# Altium footprint library OCP2PCIe-H-F-4.PcbLib: 32 footprints (part 1 of 2)
Each footprint in its own frame and in the unit in brackets; x right, y up, seen from the top. Pads: shape width x height; smd on the part's side, far side on the other; paste and mask are expansions set on the pad; w line width, h text height; cw(c..) or ccw(c..) is an arc to the next point about the centre after c.
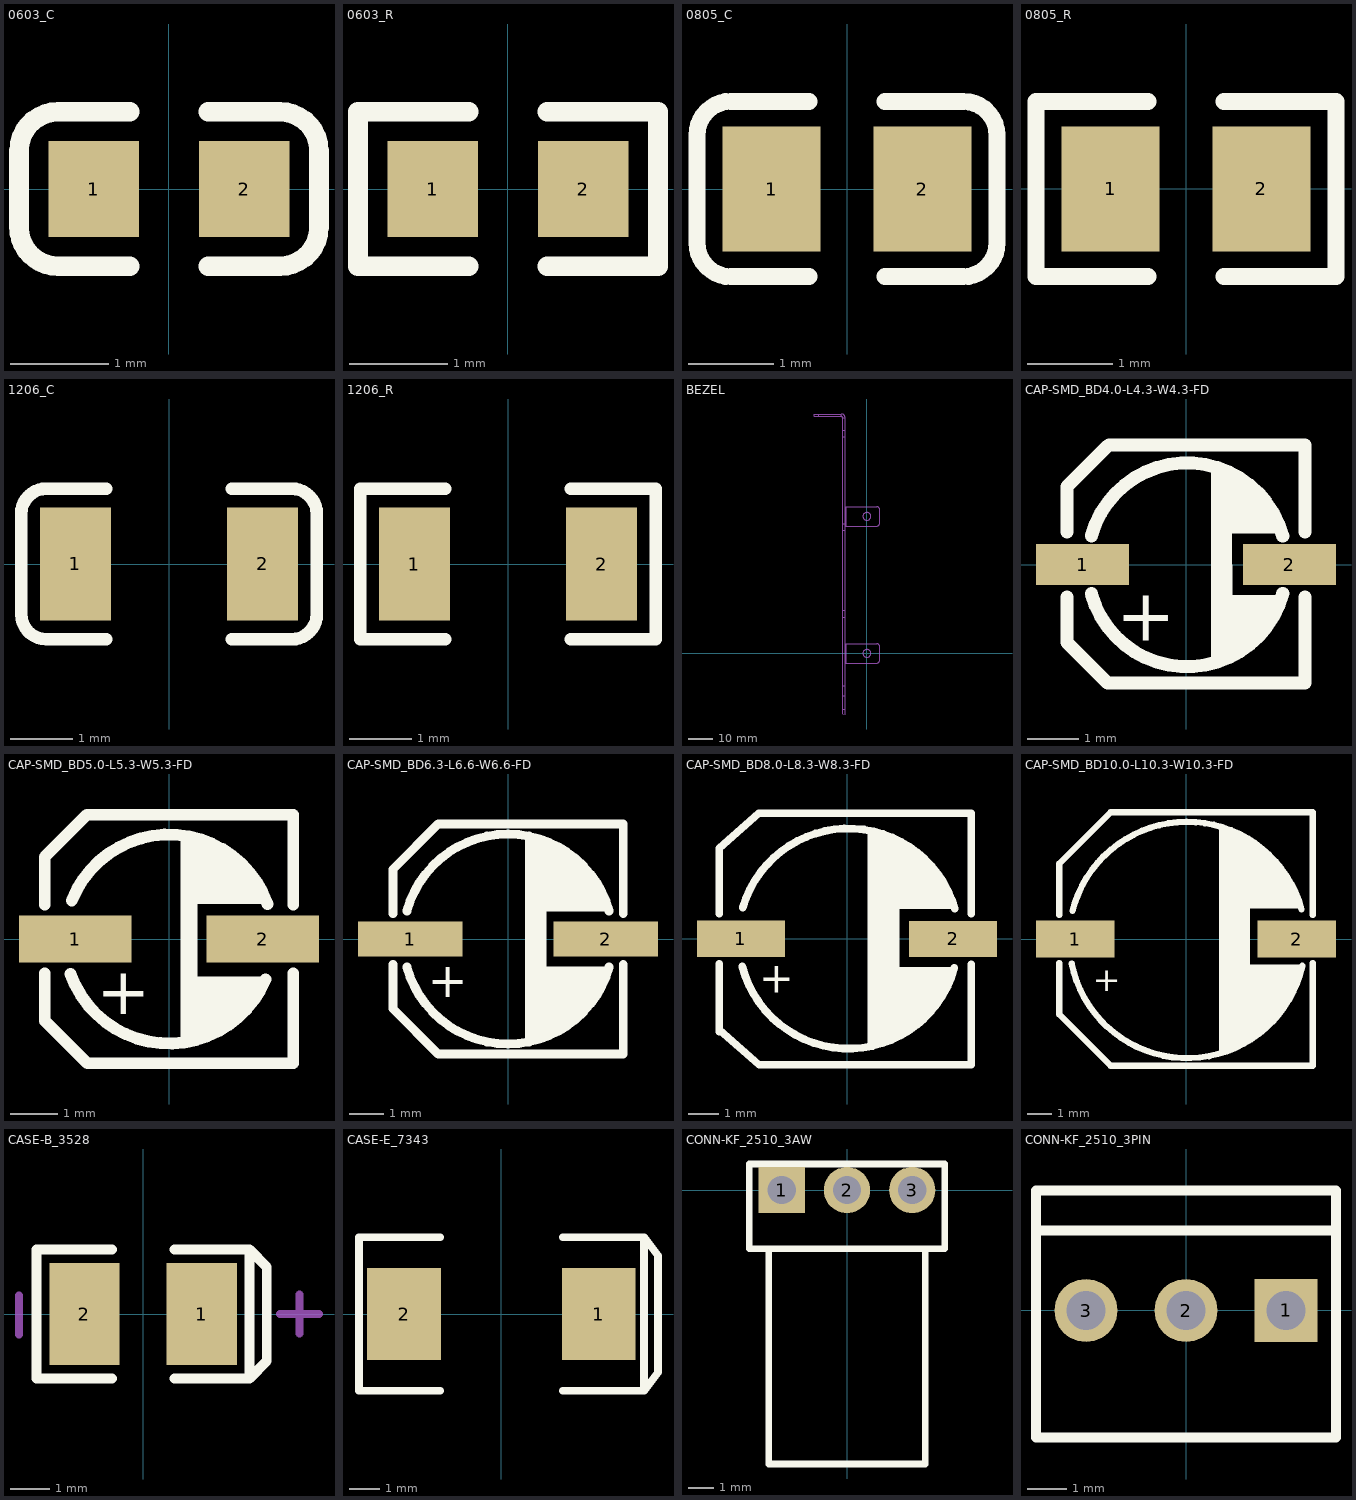
[diagram p0: the footprints below, top view; thin cyan lines are the x and y axes]

## 0603_C [mm]
height 1.5
pads (2):
  rect 0.93x0.98 smd: 1(-0.77,0) 2(0.77,0)
Top Overlay:
  lines w0.2: -0.4,-0.79 -1.135,-0.79 cw(c-1.135,-0.39) -1.535,-0.39 -1.535,0.39 cw(c-1.135,0.39) -1.135,0.79 -0.4,0.79 ; 0.4,-0.79 1.135,-0.79 ccw(c1.135,-0.39) 1.535,-0.39 1.535,0.39 ccw(c1.135,0.39) 1.135,0.79 0.4,0.79
3D body "User Library-0603 SMD Capacitor.STEP": height 0.3, standoff 0, extent -0.8,-0.4 0.8,0.4

## 0603_R [mm]
height 1.5
pads (2):
  rect 0.93x0.98 smd: 1(-0.77,0) 2(0.77,0)
Top Overlay:
  lines w0.2: -0.4,-0.79 -1.535,-0.79 -1.535,0.79 -0.4,0.79 ; 0.4,-0.79 1.535,-0.79 1.535,0.79 0.4,0.79
3D body "User Library-RES_1609-0603.STEP": height 0.56, standoff 0, extent -0.85,-0.4 0.85,0.4

## 0805_C [mm]
height 1.5
pads (2):
  rect 1.16x1.47 smd: 1(-0.89,0) 2(0.89,0)
Top Overlay:
  lines w0.2: -0.45,-1.035 -1.37,-1.035 cw(c-1.37,-0.635) -1.77,-0.635 -1.77,0.635 cw(c-1.37,0.635) -1.37,1.035 -0.45,1.035 ; 0.45,-1.035 1.37,-1.035 ccw(c1.37,-0.635) 1.77,-0.635 1.77,0.635 ccw(c1.37,0.635) 1.37,1.035 0.45,1.035
3D body "User Library-0805 SMD Capacitor.STEP": height 0.77, standoff -0.01, extent -0.999,-0.625 1.001,0.625

## 0805_R [mm]
height 1.5
pads (2):
  rect 1.16x1.47 smd: 1(-0.89,0) 2(0.89,0)
Top Overlay:
  lines w0.2: -0.45,-1.035 -1.77,-1.035 -1.77,1.035 -0.45,1.035 ; 0.45,-1.035 1.77,-1.035 1.77,1.035 0.45,1.035
3D body "User Library-R_0805.STEP": height 0.49, standoff -0.01, extent -0.997,-0.625 1.003,0.625

## 1206_C [mm]
height 1.5
pads (2):
  rect 1.13x1.8 smd: 1(-1.49,0) 2(1.49,0)
Top Overlay:
  lines w0.2: -1,-1.2 -1.955,-1.2 cw(c-1.955,-0.8) -2.355,-0.8 -2.355,0.8 cw(c-1.955,0.8) -1.955,1.2 -1,1.2 ; 1,-1.2 1.955,-1.2 ccw(c1.955,-0.8) 2.355,-0.8 2.355,0.8 ccw(c1.955,0.8) 1.955,1.2 1,1.2
3D body "C1206.STEP": height 1, standoff 0, extent -1.602,-0.813 1.598,0.787

## 1206_R [mm]
height 1.5
pads (2):
  rect 1.13x1.8 smd: 1(-1.49,0) 2(1.49,0)
Top Overlay:
  lines w0.2: -1,-1.2 -2.355,-1.2 -2.355,1.2 -1,1.2 ; 1,-1.2 2.355,-1.2 2.355,1.2 1,1.2
3D body "User Library-RES_3216-1206.STEP": height 0.85, standoff 0, extent -1.7,-0.864 1.65,0.866

## BEZEL [mm] "PCIe挡板"
height 16.65
Mechanical 3:
  circle w0.1: c0,0 r1.6
  circle w0.1: c0,55.3 r1.6
  lines w0.1: -8.805,-3.95 -8.305,-3.95 ; -8.805,3.95 -8.305,3.95 ; -8.805,51.35 -8.305,51.35 ; -8.805,59.25 -8.305,59.25 ; -21.235,95.632 -21.235,96.632 ; -21.235,95.632 -21.235,96.632 ; -21.235,95.632 -19.325,95.632 ; -21.235,96.632 -19.325,96.632 ; -19.325,95.632 -19.325,96.632 ; -19.325,95.632 -10.305,95.632 ; -19.325,96.632 -10.305,96.632 ; -10.305,95.632 cw(c-10.305,95.132) -9.805,95.132 ; -10.305,95.632 -10.305,96.632 ; -10.305,96.632 cw(c-10.305,95.132) -8.805,95.132 ; -9.805,-22.452 -8.805,-22.539 ; -9.805,-22.452 -9.805,-17.118 ; -9.805,-22.452 -9.805,-24.369 -8.805,-24.456 -8.805,-22.539 ; -9.805,-17.118 -8.805,-17.118 ; -9.805,-17.118 -9.805,-12.998 ; -9.805,-12.998 -8.805,-12.998 ; -9.805,-12.998 -9.805,14.581 ; -9.805,14.581 -8.805,14.581 ; -9.805,14.581 -9.805,17.325 ; -9.805,17.325 -8.805,17.325 ; -9.805,17.325 -9.805,49.612 ; -9.805,49.612 -8.805,49.612 ; -9.805,49.612 -9.805,52.356 ; -9.805,52.356 -8.805,52.356 ; -9.805,52.356 -9.805,87.472 ; -9.805,87.472 -8.805,87.472 ; -9.805,87.472 -9.805,90.012 ; -9.805,90.012 -8.805,90.012 ; -9.805,90.012 -9.805,95.132 ; -9.805,95.132 -8.805,95.132 ; -8.805,-22.539 -8.805,-17.118 ; -8.805,-17.118 -8.805,-12.998 ; -8.805,-12.998 -8.805,14.581 ; -8.805,14.581 -8.805,17.325 ; -8.805,17.325 -8.805,49.612 ; -8.805,49.612 -8.805,52.356 ; -8.805,52.356 -8.805,87.472 ; -8.805,87.472 -8.805,90.012 ; -8.805,90.012 -8.805,95.132 ; -8.305,-3.95 -8.305,3.95 ; -8.305,-3.95 3.925,-3.95 ccw(c3.925,-2.68) 5.195,-2.68 5.195,2.68 ccw(c3.925,2.68) 3.925,3.95 -8.305,3.95 ; -8.305,51.35 -8.305,59.25 ; -8.305,51.35 3.925,51.35 ccw(c3.925,52.62) 5.195,52.62 5.195,57.98 ccw(c3.925,57.98) 3.925,59.25 -8.305,59.25
3D body "挡板V3.2(合适钣金件).step": height 16.6, standoff -4.99, extent -21.234,-24.452 5.196,96.636

## CAP-SMD_BD4.0-L4.3-W4.3-FD [mm]
pads (2):
  rect 1.8x0.8 smd: 1(-2,0) 2(2,0)
Top Overlay:
  region: 0.49,1.84 0.49,-1.89 1.17,-1.54 1.54,-1.09 1.78,-0.74 1.84,-0.59 0.89,-0.59 0.88,0.6 1.83,0.6 1.54,1.21 1.17,1.59 0.75,1.79 0.72,1.84
  lines w0.254: -2.3,-0.631 -2.3,-1.51 -1.52,-2.29 2.3,-2.29 2.3,-0.631 ; -2.3,0.631 -2.3,1.51 -1.52,2.29 ; -1.83,-0.563 ccw(c0.02,-0.061) 1.87,-0.563 ; -1.83,0.55 cw(c0.02,0.048) 1.87,0.55 ; -1.49,2.31 2.3,2.31 2.3,0.631
  text "+" at -1.346,-1.473 h1
3D body "User Library-CAP SMD SVP 4_0x5_4.STEP": height 5.4, standoff 0, extent -2.487,-2.137 2.513,2.163

## CAP-SMD_BD5.0-L5.3-W5.3-FD [mm]
pads (2):
  rect 2.4x1 smd: 1(-2,0) 2(2,0)
Top Overlay:
  region: 0.25,2.2 0.25,-2.15 0.65,-2.05 1.1,-1.9 1.45,-1.6 1.8,-1.25 1.95,-1.05 2.05,-0.8 0.6,-0.8 0.6,0.75 2.1,0.75 1.95,1.05 1.8,1.35 1.65,1.55 1.35,1.75 1.1,1.9 0.85,2.05 0.6,2.15
  lines w0.254: -2.65,-0.731 -2.65,-1.75 -2.64,-1.75 -1.74,-2.65 2.65,-2.65 2.65,-0.731 ; -2.65,0.731 -2.65,1.75 -1.75,2.65 -1.73,2.65 2.65,2.65 2.65,0.731 ; -2.1,-0.75 ccw(c0,0) 2.058,-0.858 ; -2.074,0.819 cw(c0,0) 2.1,0.75
  text "+" at -1.537,-1.6 h1
3D body "User Library-CAP SMD SVP 5_0x5_9.STEP": height 5.9, standoff 0, extent -3.017,-2.621 2.983,2.679

## CAP-SMD_BD6.3-L6.6-W6.6-FD [mm]
pads (2):
  rect 3x1 smd: 1(-2.8,0) 2(2.8,0)
Top Overlay:
  region: 0.5,-3 0.5,2.9 0.5,3 0.5,2.9 1.1,2.8 1.6,2.6 1.9,2.3 2.2,2.1 2.5,1.8 2.7,1.4 2.9,0.8 1.1,0.8 1.1,-0.8 2.9,-0.8 2.8,-1 2.7,-1.4 2.4,-1.7 2.2,-2.1 1.8,-2.4 1.4,-2.6 1,-2.8
  lines w0.254: -3.297,-0.732 -3.297,-1.999 -1.996,-3.299 3.302,-3.299 3.302,-0.732 ; -3.297,0.732 -3.297,1.999 -1.996,3.299 3.302,3.299 3.302,0.732 ; -2.9,-0.8 ccw(c0,0) 2.9,-0.8 ; -2.9,0.8 cw(c0,0) 2.9,0.8
  text "+" at -2.299,-1.676 h1
3D body "User Library-CAP SMD SVP 6_3x5_9.STEP": height 5.9, standoff 0, extent -3.663,-3.325 3.637,3.275

## CAP-SMD_BD8.0-L8.3-W8.3-FD [mm]
pads (2):
  rect 2.901x1.199 smd: 1(-3.5,0.005) 2(3.5,-0.005)
Top Overlay:
  region: 0.686,3.607 0.686,-3.581 1.219,-3.378 1.6,-3.226 1.981,-3.048 2.311,-2.819 2.692,-2.489 2.921,-2.184 3.175,-1.854 3.277,-1.6 3.454,-1.194 3.531,-0.94 1.727,-0.94 1.727,0.991 3.531,0.991 3.251,1.626 2.997,2.235 2.616,2.565 2.235,2.921 1.854,3.124 1.372,3.378 1.092,3.48 0.686,3.683
  lines w0.254: -4.211,-3.068 -4.211,-0.826 ; -4.211,-3.015 -2.901,-4.155 4.1,-4.155 4.1,-0.836 ; -4.211,0.836 -4.211,2.995 -2.911,4.145 ; -3.454,-0.914 ccw(c0.051,0) 3.544,-0.958 ; -3.442,1.035 cw(c0.051,0) 3.556,0.991 ; -2.901,4.145 4.1,4.145 4.1,0.826
  text "+" at -2.896,-1.778 h1
3D body "User Library-CAP SMD SVP 8_0x6_9.STEP": height 6.9, standoff 0, extent -4.805,-4.175 4.195,4.125

## CAP-SMD_BD10.0-L10.3-W10.3-FD [mm]
pads (2):
  rect 3.2x1.5 smd: 1(-4.5,0) 2(4.5,0)
Top Overlay:
  region: 1.35,4.6 1.35,-4.65 1.8,-4.45 2.4,-4.2 2.9,-3.9 3.25,-3.55 3.55,-3.35 3.85,-2.95 4.2,-2.35 4.45,-1.95 4.6,-1.6 4.75,-1.05 2.6,-1.05 2.6,1.1 2.6,1.25 4.65,1.25 4.5,1.8 4.2,2.45 3.95,2.9 3.4,3.45 2.8,3.85 2.2,4.2 1.8,4.5 1.35,4.65
  lines w0.254: -5.15,-0.981 -5.15,-3.067 -3.067,-5.15 5.15,-5.15 5.15,-0.981 ; -5.15,0.981 -5.15,3.067 -3.067,5.15 5.15,5.15 5.15,0.981 ; -4.65,-1 ccw(c0.05,-0.05) 4.731,-1.09 ; -4.614,1.146 cw(c0.05,-0.05) 4.7,1.2
  text "+" at -3.785,-2.134 h1
3D body "User Library-CAP SMD SVP 10_0x12_6.STEP": height 12.6, standoff 0, extent -5.5,-5.15 5.5,5.15

## CASE-B_3528 [mm]
height 1.25
pads (2):
  rect 1.8x2.6 smd: 1(1.5,0) 2(-1.5,0)
Top Overlay:
  lines w0.254: -0.8,-1.65 -2.727,-1.65 -2.727,1.65 -0.8,1.65 ; 0.8,-1.65 2.727,-1.65 ; 0.8,1.65 2.727,1.65 ; 2.727,-1.65 2.727,1.65 ; 2.727,-1.65 3.163,-1.2 3.163,1.2 2.727,1.65
Mechanical 15:
  lines w0.203: -3.175,-0.525 -3.175,0.475 ; 3.5,0 4.5,0 ; 4,-0.5 4,0.5
3D body "User Library-AVX_BCASE.STEP": height 2.03, standoff 0, extent -1.85,-1.465 1.85,1.465

## CASE-E_7343 [mm] "钽电容CASE-E_7343"
pads (2):
  rect 2.4x3 smd: 1(3.175,0) 2(-3.175,0)
Top Overlay:
  lines w0.254: -2,-2.5 -4.647,-2.5 -4.647,2.5 -2,2.5 ; 2,-2.5 4.647,-2.5 ; 2,2.5 4.647,2.5 ; 4.647,-2.5 4.647,2.5 ; 4.647,-2.5 5.1,-1.9 5.1,1.9 4.647,2.5
Top Paste:
  region: 4.32,-1.5 1.92,-1.5 1.92,1.5 4.32,1.5
  region: -1.92,-1.5 -4.32,-1.5 -4.32,1.5 -1.92,1.5
Top Solder:
  region: 4.32,-1.5 1.92,-1.5 1.92,1.5 4.32,1.5
  region: -1.92,-1.5 -4.32,-1.5 -4.32,1.5 -1.92,1.5
3D body "tan7343.step": height 4.31, standoff 0.01, extent -3.8,-2.286 3.8,2.314

## CONN-KF_2510_3AW [mm]
pads (3):
  rect 1.8x1.8 hole 1.1: 1(-2.54,0)
  round 1.8 hole 1.1: 2(0,0) 3(2.54,0)
Top Overlay:
  lines w0.254: -3.048,-2.286 -3.048,-10.668 3.048,-10.668 3.048,-2.286 ; -3.81,-2.286 3.81,-2.286 3.81,1.016 -3.81,1.016 -3.81,-2.286

## CONN-KF_2510_3PIN [mm]
pads (3):
  rect 1.6x1.6 hole 1: 1(2.54,0)
  round 1.6 hole 1: 2(0,0) 3(-2.54,0)
Top Overlay:
  lines w0.254: -3.81,2.032 3.81,2.032 ; -3.81,-3.226 3.81,-3.226 3.81,3.048 -3.81,3.048 -3.81,2.24 -3.81,-3.226
3D body "User Library-KF2510-3pin_step.STEP": height 11.5, standoff -1.9, extent -3.828,-3.213 3.772,2.587